# Altium integrated library TI Power Management Power Modules.IntLib: 831 symbols (part 3 of 44)
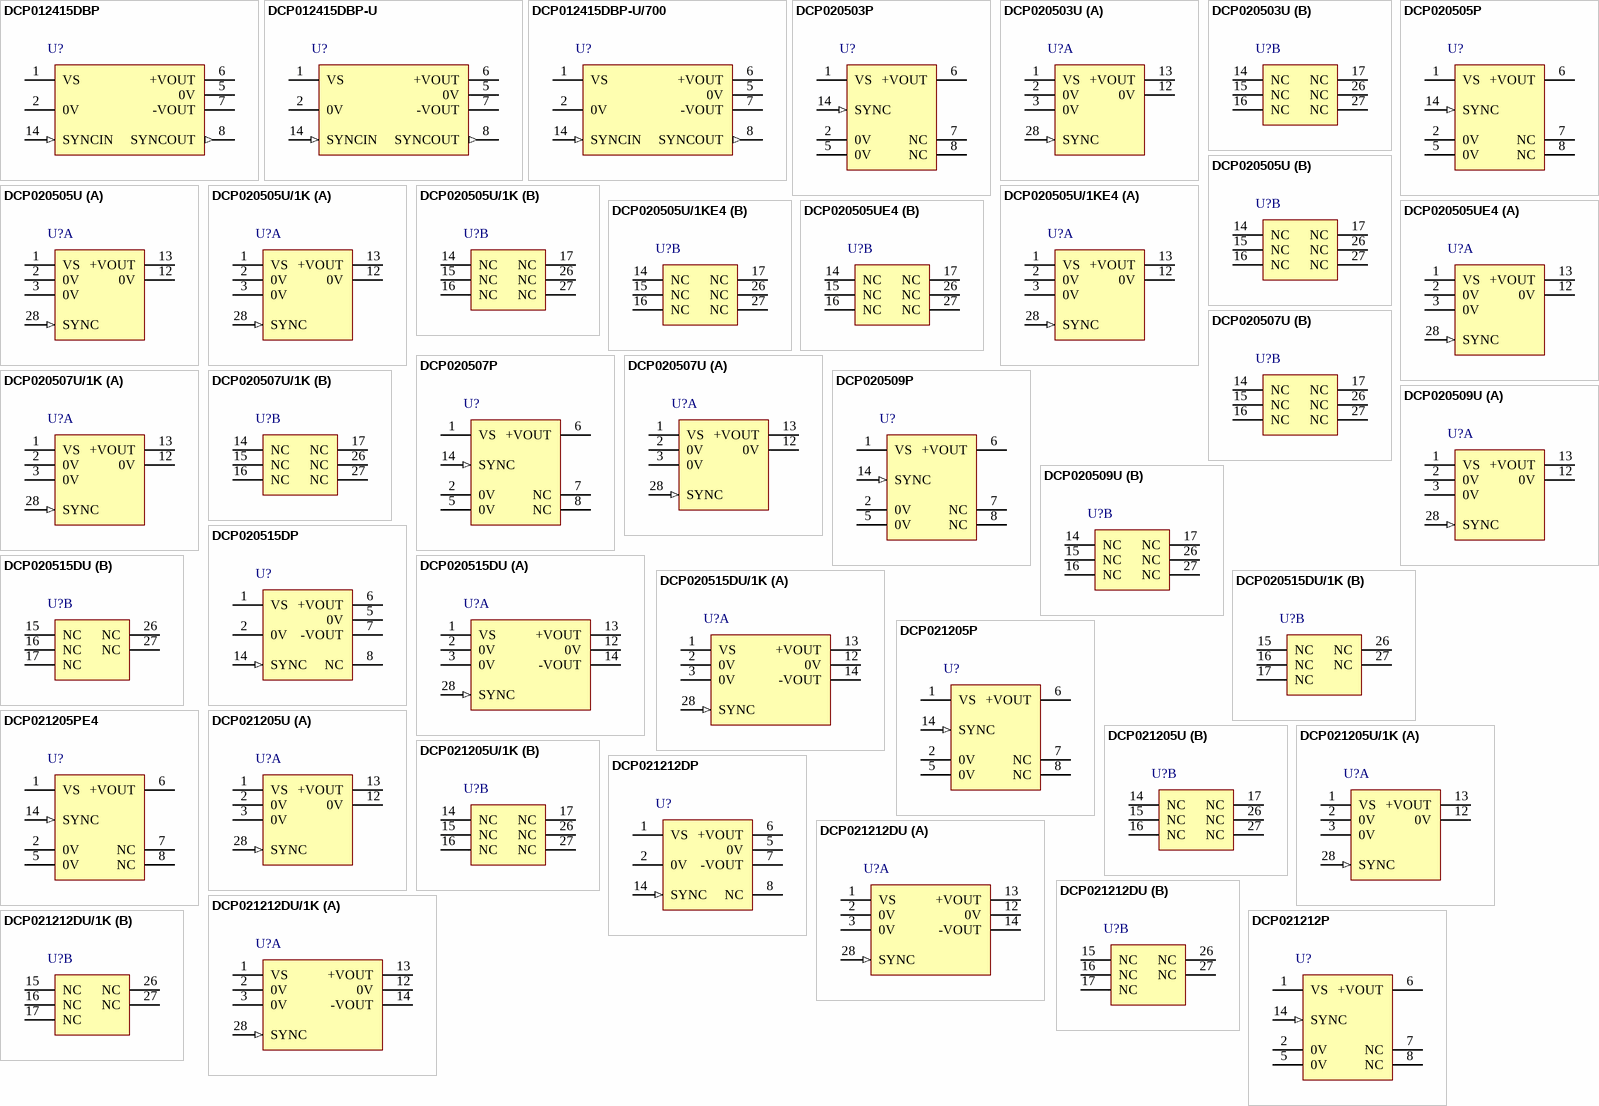
[diagram p25: symbols DCP012415DBP to DCP021212P]

## DCP021205P
designator U?
Miniature, 2 W Isolated Unregulated DC-DC Converter, -40 to 85 degC, 7-pin DIP (NVA7), Pb-Free (RoHS); Manufacturer: Texas Instruments; PartNumber: DCP021205P; Iout(Max)(A): 0.4; Regulated Outputs(#): 1; SubFamily: 1 W & 2 W Miniature; Vin(Max)(V): 13.2; Vin(Min)(V): 10.8; Vout(Max)(V): 5.25; Vout(Min)(V): 4.75; DatasheetVersion: SBVS011K; PackageVersion: 4202489/B; PackageReference: NVA7; PackageDescription: 7-Pin Plastic In-Line, Body 6.61 x 19.18 mm; Supplier 1: Digi-Key; Supplier Part Number 1: DCP021205P-ND; Supplier 2: Newark; Supplier Part Number 2: 74K3729; Supplier 3: Mouser; Supplier Part Number 3: 595-DCP021205P; Eco-Plan: Pb-Free (RoHS); Mounting Technology: Through Hole; Code_JEDEC: MS-001-AA; ComponentLink1Description: Manufacturer URL; ComponentLink1URL: http://www.ti.com/; ComponentLink2Description: Datasheet; ComponentLink2URL: http://www.ti.com/general/docs/lit/getliterature.tsp?genericPartNumber=DCP021205&fileType=pdf; ComponentLink3Description: Package Specification; ComponentLink3URL: http://www.ti.com/lit/ml/mpdi058a/mpdi058a.pdf; ComponentLink4Description: URL Link1; ComponentLink4URL: Samples URL:http://www.ti.com/product/dcp021205#samples
footprint TI-NVA7 (DIP, 7-Leads, Body 19.18x6.605mm, Pitch 2.54mm)
pins: 1 VS (power) "Voltage input", 2 0V (power) "Input side common", 5 0V (power) "Output side common", 6 +VOUT (power) "+Voltage out", 7 NC "Not connected", 8 NC "Not connected", 14 SYNC (in) "Synchronization pin"

## DCP021205PE4
designator U?
Miniature, 2 W Isolated Unregulated DC-DC Converter, -40 to 85 degC, 7-pin DIP (NVA7), Pb-Free (RoHS); Manufacturer: Texas Instruments; PartNumber: DCP021205PE4; Iout(Max)(A): 0.4; Regulated Outputs(#): 1; SubFamily: 1 W & 2 W Miniature; Vin(Max)(V): 13.2; Vin(Min)(V): 10.8; Vout(Max)(V): 5.25; Vout(Min)(V): 4.75; DatasheetVersion: SBVS011K; PackageVersion: 4202489/B; PackageReference: NVA7; PackageDescription: 7-Pin Plastic In-Line, Body 6.61 x 19.18 mm; Supplier 1: Digi-Key; Supplier Part Number 1: DCP021205PE4-ND; Supplier 2: Mouser; Supplier Part Number 2: 595-DCP021205PE4; Eco-Plan: Pb-Free (RoHS); Mounting Technology: Through Hole; Code_JEDEC: MS-001-AA; ComponentLink1Description: Manufacturer URL; ComponentLink1URL: http://www.ti.com/; ComponentLink2Description: Datasheet; ComponentLink2URL: http://www.ti.com/general/docs/lit/getliterature.tsp?genericPartNumber=DCP021205&fileType=pdf; ComponentLink3Description: Package Specification; ComponentLink3URL: http://www.ti.com/lit/ml/mpdi058a/mpdi058a.pdf; ComponentLink4Description: URL Link1; ComponentLink4URL: Samples URL:http://www.ti.com/product/dcp021205#samples
footprint TI-NVA7 (DIP, 7-Leads, Body 19.18x6.605mm, Pitch 2.54mm)
pins: 1 VS (power) "Voltage input", 2 0V (power) "Input side common", 5 0V (power) "Output side common", 6 +VOUT (power) "+Voltage out", 7 NC "Not connected", 8 NC "Not connected", 14 SYNC (in) "Synchronization pin"

## DCP021205U
designator U?
Miniature, 2 W Isolated Unregulated DC-DC Converter, -40 to 85 degC, 12-pin SOP (DVB12), Pb-Free (RoHS); Manufacturer: Texas Instruments; PartNumber: DCP021205U; Iout(Max)(A): 0.4; Regulated Outputs(#): 1; SubFamily: 1 W & 2 W Miniature; Vin(Max)(V): 13.2; Vin(Min)(V): 10.8; Vout(Max)(V): 5.25; Vout(Min)(V): 4.75; DatasheetVersion: SBVS011K; PackageVersion: 4202104/B; PackageReference: DVB12; PackageDescription: 12-Pin Plastic Small Outline, Body 17.9 x 7.5 mm; Supplier 1: Digi-Key; Supplier Part Number 1: DCP021205U-ND; Supplier 2: Newark; Supplier Part Number 2: 74C9348; Supplier 3: Mouser; Supplier Part Number 3: 595-DCP021205U; Eco-Plan: Pb-Free (RoHS); Mounting Technology: Surface Mount; Code_JEDEC: MS-013-AE; ComponentLink1Description: Manufacturer URL; ComponentLink1URL: http://www.ti.com/; ComponentLink2Description: Datasheet; ComponentLink2URL: http://www.ti.com/general/docs/lit/getliterature.tsp?genericPartNumber=DCP021205&fileType=pdf; ComponentLink3Description: Package Specification; ComponentLink3URL: http://www.ti.com/lit/ml/mpds106a/mpds106a.pdf; ComponentLink4Description: URL Link1; ComponentLink4URL: Samples URL:http://www.ti.com/product/dcp021205#samples
footprint TI-DVB12_N (SOP, 12-Leads, Body 17.9x7.5mm, Pitch 1.27mm, IPC Medium Density)
footprint TI-DVB12_L (SOP, 12-Leads, Body 17.9x7.5mm, Pitch 1.27mm, IPC High Density)
footprint TI-DVB12_M (SOP, 12-Leads, Body 17.9x7.5mm, Pitch 1.27mm, IPC Low Density)
part A pins: 1 VS (power) "Voltage input", 2 0V (power) "Input side common", 3 0V (power) "Input side common", 12 0V (power) "Output side common", 13 +VOUT (power) "+Voltage out", 28 SYNC (in) "Synchronization pin"
part B pins: 14 NC "Not connected", 15 NC "Not connected", 16 NC "Not connected", 17 NC "Not connected", 26 NC "Not connected", 27 NC "Not connected"

## DCP021205U/1K
designator U?
Miniature, 2 W Isolated Unregulated DC-DC Converter, -40 to 85 degC, 12-pin SOP (DVB12), Pb-Free (RoHS); Manufacturer: Texas Instruments; PartNumber: DCP021205U/1K; Iout(Max)(A): 0.4; Regulated Outputs(#): 1; SubFamily: 1 W & 2 W Miniature; Vin(Max)(V): 13.2; Vin(Min)(V): 10.8; Vout(Max)(V): 5.25; Vout(Min)(V): 4.75; DatasheetVersion: SBVS011K; PackageVersion: 4202104/B; PackageReference: DVB12; PackageDescription: 12-Pin Plastic Small Outline, Body 17.9 x 7.5 mm; Supplier 1: Digi-Key; Supplier Part Number 1: DCP021205U/1K-ND; Supplier 2: Mouser; Supplier Part Number 2: 595-DCP021205U/1K; Eco-Plan: Pb-Free (RoHS); Mounting Technology: Surface Mount; Code_JEDEC: MS-013-AE; ComponentLink1Description: Manufacturer URL; ComponentLink1URL: http://www.ti.com/; ComponentLink2Description: Datasheet; ComponentLink2URL: http://www.ti.com/general/docs/lit/getliterature.tsp?genericPartNumber=DCP021205&fileType=pdf; ComponentLink3Description: Package Specification; ComponentLink3URL: http://www.ti.com/lit/ml/mpds106a/mpds106a.pdf; ComponentLink4Description: URL Link1; ComponentLink4URL: Samples URL:http://www.ti.com/product/tps55010#samples
footprint TI-DVB12_N (SOP, 12-Leads, Body 17.9x7.5mm, Pitch 1.27mm, IPC Medium Density)
footprint TI-DVB12_L (SOP, 12-Leads, Body 17.9x7.5mm, Pitch 1.27mm, IPC High Density)
footprint TI-DVB12_M (SOP, 12-Leads, Body 17.9x7.5mm, Pitch 1.27mm, IPC Low Density)
part A pins: 1 VS (power) "Voltage input", 2 0V (power) "Input side common", 3 0V (power) "Input side common", 12 0V (power) "Output side common", 13 +VOUT (power) "+Voltage out", 28 SYNC (in) "Synchronization pin"
part B pins: 14 NC "Not connected", 15 NC "Not connected", 16 NC "Not connected", 17 NC "Not connected", 26 NC "Not connected", 27 NC "Not connected"

## DCP021212DP
designator U?
Miniature, 2 W Isolated Unregulated DC-DC Converter, -40 to 85 degC, 7-pin DIP (NVA7), Pb-Free (RoHS); Manufacturer: Texas Instruments; PartNumber: DCP021212DP; Iout(Max)(A): 0.083; Regulated Outputs(#): 2; SubFamily: 1 W & 2 W Miniature; Vin(Max)(V): 13.2; Vin(Min)(V): 10.8; Vout(Max)(V): 12.6; Vout(Min)(V): 11.4; DatasheetVersion: SBVS011K; PackageVersion: 4202489/B; PackageReference: NVA7; PackageDescription: 7-Pin Plastic In-Line, Body 6.61 x 19.18 mm; Supplier 1: Digi-Key; Supplier Part Number 1: DCP021212DP-ND; Supplier 2: Farnell; Supplier Part Number 2: 1214379; Supplier 3: Newark; Supplier Part Number 3: 74K3730; Supplier 4: Mouser; Supplier Part Number 4: 595-DCP021212DP; Eco-Plan: Pb-Free (RoHS); Mounting Technology: Through Hole; Code_JEDEC: MS-001-AA; ComponentLink1Description: Manufacturer URL; ComponentLink1URL: http://www.ti.com/; ComponentLink2Description: Datasheet; ComponentLink2URL: http://www.ti.com/general/docs/lit/getliterature.tsp?genericPartNumber=DCP021212D&fileType=pdf; ComponentLink3Description: Package Specification; ComponentLink3URL: http://www.ti.com/lit/ml/mpdi058a/mpdi058a.pdf; ComponentLink4Description: URL Link1; ComponentLink4URL: Samples URL:http://www.ti.com/product/dcp021212d#samples
footprint TI-NVA7 (DIP, 7-Leads, Body 19.18x6.605mm, Pitch 2.54mm)
pins: 1 VS (power) "Voltage input", 2 0V (power) "Input side common", 5 0V (power) "Output side common", 6 +VOUT (power) "+Voltage out", 7 -VOUT (power) "-Voltage out", 8 NC "Not connected", 14 SYNC (in) "Synchronization pin"

## DCP021212DU
designator U?
Miniature, 2 W Isolated Unregulated DC-DC Converter, -40 to 85 degC, 12-pin SOP (DVB12), Pb-Free (RoHS); Manufacturer: Texas Instruments; PartNumber: DCP021212DU; Iout(Max)(A): 0.083; Regulated Outputs(#): 2; SubFamily: 1 W & 2 W Miniature; Vin(Max)(V): 13.2; Vin(Min)(V): 10.8; Vout(Max)(V): 12.6; Vout(Min)(V): 11.4; DatasheetVersion: SBVS011K; PackageVersion: 4202104/B; PackageReference: DVB12; PackageDescription: 12-Pin Plastic Small Outline, Body 17.9 x 7.5 mm; Supplier 1: Digi-Key; Supplier Part Number 1: 296-9446-5-ND; Supplier 2: Newark; Supplier Part Number 2: 74C9351; Supplier 3: Mouser; Supplier Part Number 3: 595-DCP021212DU; Eco-Plan: Pb-Free (RoHS); Mounting Technology: Surface Mount; Code_JEDEC: MS-013-AE; ComponentLink1Description: Manufacturer URL; ComponentLink1URL: http://www.ti.com/; ComponentLink2Description: Datasheet; ComponentLink2URL: http://www.ti.com/general/docs/lit/getliterature.tsp?genericPartNumber=DCP021212D&fileType=pdf; ComponentLink3Description: Package Specification; ComponentLink3URL: http://www.ti.com/lit/ml/mpds106a/mpds106a.pdf; ComponentLink4Description: URL Link1; ComponentLink4URL: Samples URL:http://www.ti.com/product/dcp021212d#samples
footprint TI-DVB12_N (SOP, 12-Leads, Body 17.9x7.5mm, Pitch 1.27mm, IPC Medium Density)
footprint TI-DVB12_L (SOP, 12-Leads, Body 17.9x7.5mm, Pitch 1.27mm, IPC High Density)
footprint TI-DVB12_M (SOP, 12-Leads, Body 17.9x7.5mm, Pitch 1.27mm, IPC Low Density)
part A pins: 1 VS (power) "Voltage input", 2 0V (power) "Input side common", 3 0V (power) "Input side common", 12 0V (power) "Output side common", 13 +VOUT (power) "+Voltage out", 14 -VOUT (power) "-Voltage out", 28 SYNC (in) "Synchronization pin"
part B pins: 15 NC "Not connected", 16 NC "Not connected", 17 NC "Not connected", 26 NC "Not connected", 27 NC "Not connected"

## DCP021212DU/1K
designator U?
Miniature, 2 W Isolated Unregulated DC-DC Converter, -40 to 85 degC, 12-pin SOP (DVB12), Pb-Free (RoHS); Manufacturer: Texas Instruments; PartNumber: DCP021212DU/1K; Iout(Max)(A): 0.083; Regulated Outputs(#): 2; SubFamily: 1 W & 2 W Miniature; Vin(Max)(V): 13.2; Vin(Min)(V): 10.8; Vout(Max)(V): 12.6; Vout(Min)(V): 11.4; DatasheetVersion: SBVS011K; PackageVersion: 4202104/B; PackageReference: DVB12; PackageDescription: 12-Pin Plastic Small Outline, Body 17.9 x 7.5 mm; Supplier 1: Digi-Key; Supplier Part Number 1: DCP021212DU/1K-ND; Supplier 2: Newark; Supplier Part Number 2: 74C9352; Supplier 3: Mouser; Supplier Part Number 3: 595-DCP021212DU/1K; Eco-Plan: Pb-Free (RoHS); Mounting Technology: Surface Mount; Code_JEDEC: MS-013-AE; ComponentLink1Description: Manufacturer URL; ComponentLink1URL: http://www.ti.com/; ComponentLink2Description: Datasheet; ComponentLink2URL: http://www.ti.com/general/docs/lit/getliterature.tsp?genericPartNumber=DCP021212D&fileType=pdf; ComponentLink3Description: Package Specification; ComponentLink3URL: http://www.ti.com/lit/ml/mpds106a/mpds106a.pdf; ComponentLink4Description: URL Link1; ComponentLink4URL: Samples URL:http://www.ti.com/product/tps55010#samples
footprint TI-DVB12_N (SOP, 12-Leads, Body 17.9x7.5mm, Pitch 1.27mm, IPC Medium Density)
footprint TI-DVB12_L (SOP, 12-Leads, Body 17.9x7.5mm, Pitch 1.27mm, IPC High Density)
footprint TI-DVB12_M (SOP, 12-Leads, Body 17.9x7.5mm, Pitch 1.27mm, IPC Low Density)
part A pins: 1 VS (power) "Voltage input", 2 0V (power) "Input side common", 3 0V (power) "Input side common", 12 0V (power) "Output side common", 13 +VOUT (power) "+Voltage out", 14 -VOUT (power) "-Voltage out", 28 SYNC (in) "Synchronization pin"
part B pins: 15 NC "Not connected", 16 NC "Not connected", 17 NC "Not connected", 26 NC "Not connected", 27 NC "Not connected"

## DCP021212P
designator U?
Miniature, 2 W Isolated Unregulated DC-DC Converter, -40 to 85 degC, 7-pin DIP (NVA7), Pb-Free (RoHS); Manufacturer: Texas Instruments; PartNumber: DCP021212P; Iout(Max)(A): 0.167; Regulated Outputs(#): 1; SubFamily: 1 W & 2 W Miniature; Vin(Max)(V): 13.2; Vin(Min)(V): 10.8; Vout(Max)(V): 12.6; Vout(Min)(V): 11.4; DatasheetVersion: SBVS011K; PackageVersion: 4202489/B; PackageReference: NVA7; PackageDescription: 7-Pin Plastic In-Line, Body 6.61 x 19.18 mm; Supplier 1: Digi-Key; Supplier Part Number 1: DCP021212P-ND; Supplier 2: Farnell; Supplier Part Number 2: 1214377; Supplier 3: Newark; Supplier Part Number 3: 74K3731; Supplier 4: Mouser; Supplier Part Number 4: 595-DCP021212P; Eco-Plan: Pb-Free (RoHS); Mounting Technology: Through Hole; Code_JEDEC: MS-001-AA; ComponentLink1Description: Manufacturer URL; ComponentLink1URL: http://www.ti.com/; ComponentLink2Description: Datasheet; ComponentLink2URL: http://www.ti.com/general/docs/lit/getliterature.tsp?genericPartNumber=DCP021212&fileType=pdf; ComponentLink3Description: Package Specification; ComponentLink3URL: http://www.ti.com/lit/ml/mpdi058a/mpdi058a.pdf; ComponentLink4Description: URL Link1; ComponentLink4URL: Samples URL:http://www.ti.com/product/dcp021212#samples
footprint TI-NVA7 (DIP, 7-Leads, Body 19.18x6.605mm, Pitch 2.54mm)
pins: 1 VS (power) "Voltage input", 2 0V (power) "Input side common", 5 0V (power) "Output side common", 6 +VOUT (power) "+Voltage out", 7 NC "Not connected", 8 NC "Not connected", 14 SYNC (in) "Synchronization pin"

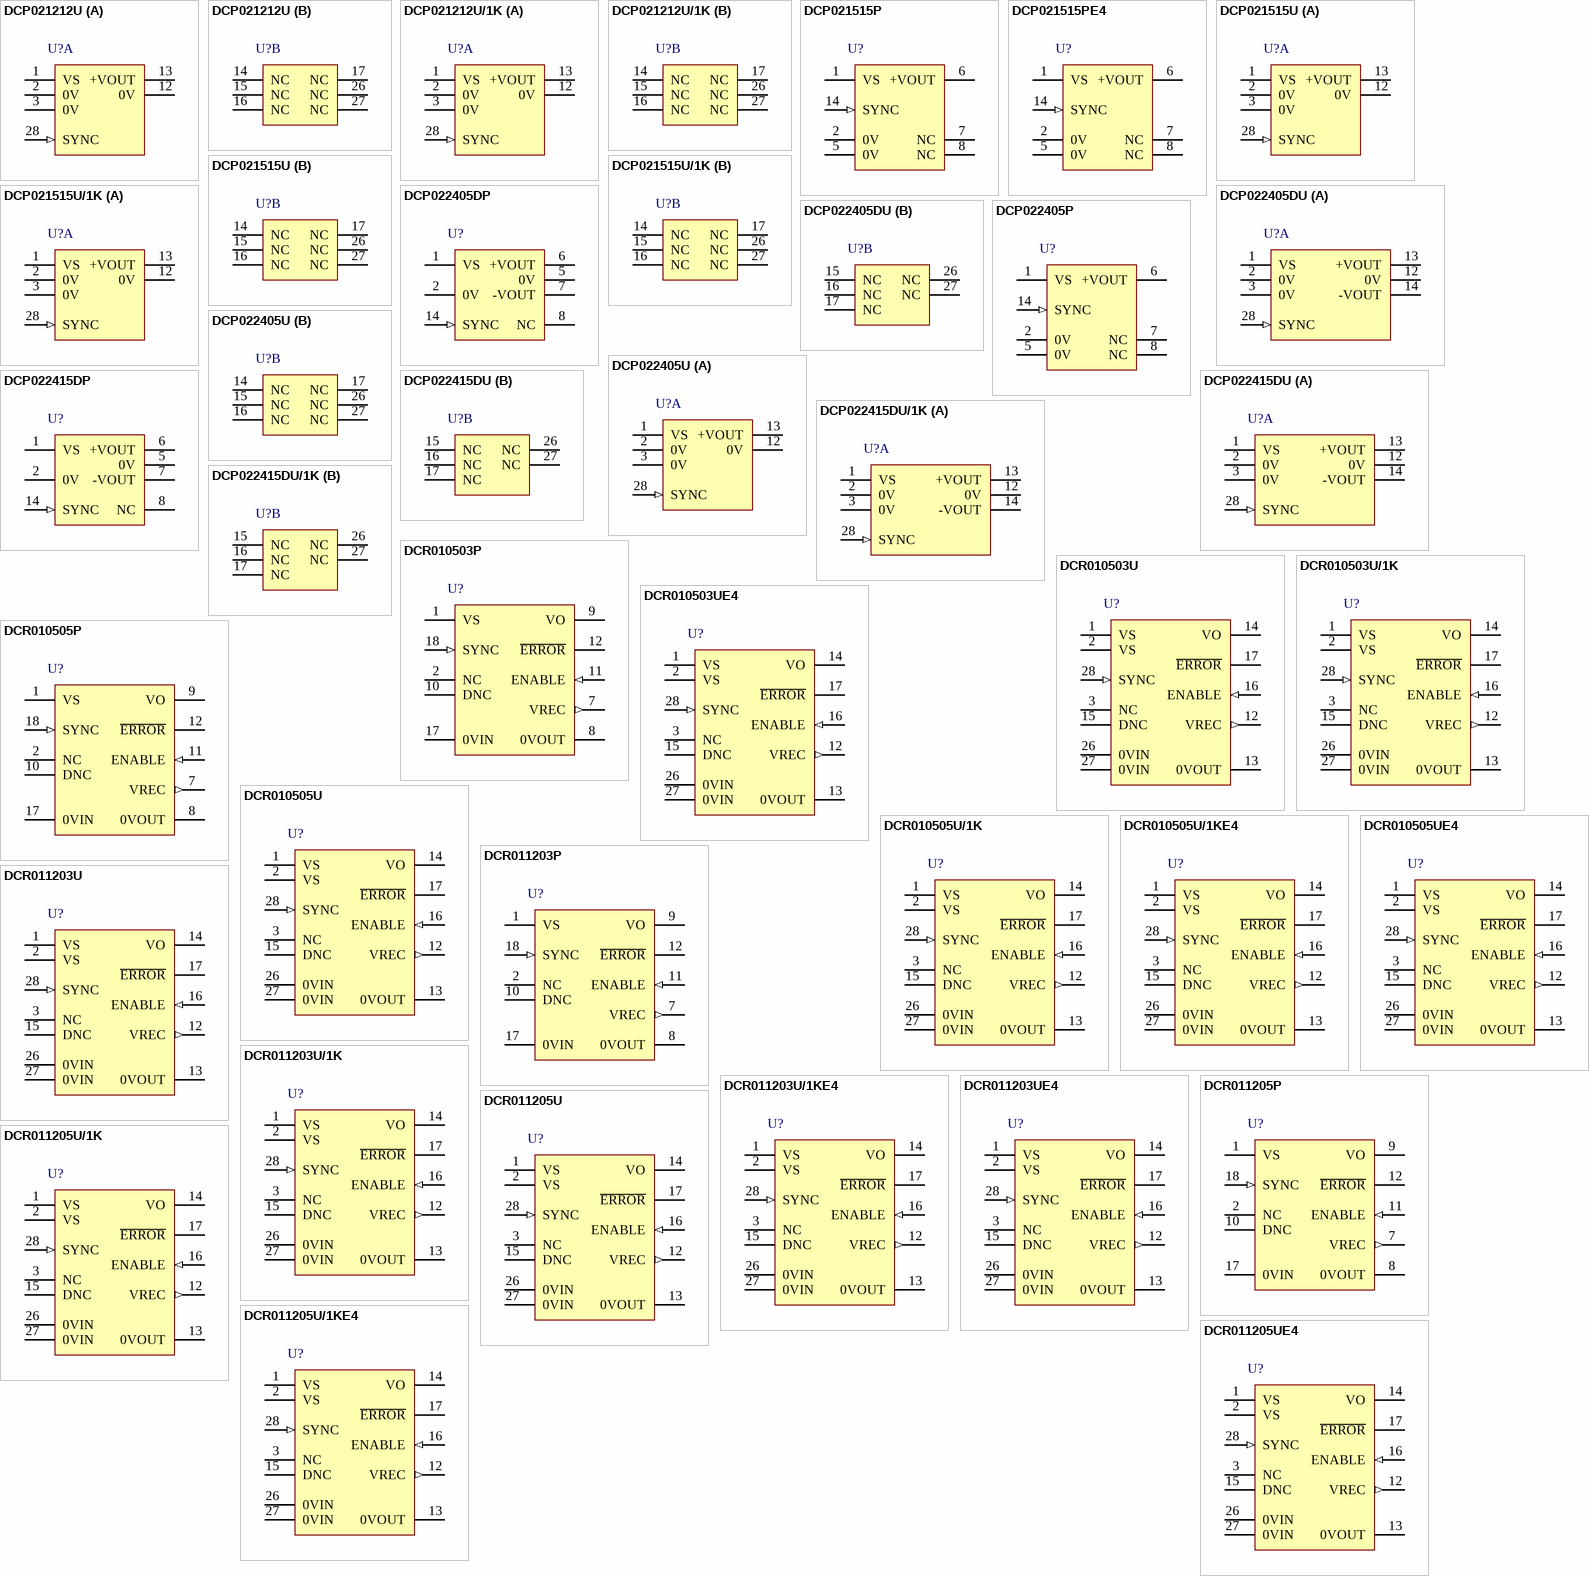
[diagram p2: symbols DCP021212U to DCR011205UE4]

## DCP021212U
designator U?
Miniature, 2 W Isolated Unregulated DC-DC Converter, -40 to 85 degC, 12-pin SOP (DVB12), Pb-Free (RoHS); Manufacturer: Texas Instruments; PartNumber: DCP021212U; Iout(Max)(A): 0.167; Regulated Outputs(#): 1; SubFamily: 1 W & 2 W Miniature; Vin(Max)(V): 13.2; Vin(Min)(V): 10.8; Vout(Max)(V): 12.6; Vout(Min)(V): 11.4; DatasheetVersion: SBVS011K; PackageVersion: 4202104/B; PackageReference: DVB12; PackageDescription: 12-Pin Plastic Small Outline, Body 17.9 x 7.5 mm; Supplier 1: Digi-Key; Supplier Part Number 1: 296-9447-5-ND; Supplier 2: Newark; Supplier Part Number 2: 74C9353; Supplier 3: Mouser; Supplier Part Number 3: 595-DCP021212U; Eco-Plan: Pb-Free (RoHS); Mounting Technology: Surface Mount; Code_JEDEC: MS-013-AE; ComponentLink1Description: Manufacturer URL; ComponentLink1URL: http://www.ti.com/; ComponentLink2Description: Datasheet; ComponentLink2URL: http://www.ti.com/general/docs/lit/getliterature.tsp?genericPartNumber=DCP021212&fileType=pdf; ComponentLink3Description: Package Specification; ComponentLink3URL: http://www.ti.com/lit/ml/mpds106a/mpds106a.pdf; ComponentLink4Description: URL Link1; ComponentLink4URL: Samples URL:http://www.ti.com/product/dcp021212#samples
footprint TI-DVB12_N (SOP, 12-Leads, Body 17.9x7.5mm, Pitch 1.27mm, IPC Medium Density)
footprint TI-DVB12_L (SOP, 12-Leads, Body 17.9x7.5mm, Pitch 1.27mm, IPC High Density)
footprint TI-DVB12_M (SOP, 12-Leads, Body 17.9x7.5mm, Pitch 1.27mm, IPC Low Density)
part A pins: 1 VS (power) "Voltage input", 2 0V (power) "Input side common", 3 0V (power) "Input side common", 12 0V (power) "Output side common", 13 +VOUT (power) "+Voltage out", 28 SYNC (in) "Synchronization pin"
part B pins: 14 NC "Not connected", 15 NC "Not connected", 16 NC "Not connected", 17 NC "Not connected", 26 NC "Not connected", 27 NC "Not connected"

## DCP021212U/1K
designator U?
Miniature, 2 W Isolated Unregulated DC-DC Converter, -40 to 85 degC, 12-pin SOP (DVB12), Pb-Free (RoHS); Manufacturer: Texas Instruments; PartNumber: DCP021212U/1K; Iout(Max)(A): 0.167; Regulated Outputs(#): 1; SubFamily: 1 W & 2 W Miniature; Vin(Max)(V): 13.2; Vin(Min)(V): 10.8; Vout(Max)(V): 12.6; Vout(Min)(V): 11.4; DatasheetVersion: SBVS011K; PackageVersion: 4202104/B; PackageReference: DVB12; PackageDescription: 12-Pin Plastic Small Outline, Body 17.9 x 7.5 mm; Supplier 1: Digi-Key; Supplier Part Number 1: DCP021212U/1K-ND; Supplier 2: Newark; Supplier Part Number 2: 74C9354; Supplier 3: Mouser; Supplier Part Number 3: 595-DCP021212U/1K; Eco-Plan: Pb-Free (RoHS); Mounting Technology: Surface Mount; Code_JEDEC: MS-013-AE; ComponentLink1Description: Manufacturer URL; ComponentLink1URL: http://www.ti.com/; ComponentLink2Description: Datasheet; ComponentLink2URL: http://www.ti.com/general/docs/lit/getliterature.tsp?genericPartNumber=DCP021212&fileType=pdf; ComponentLink3Description: Package Specification; ComponentLink3URL: http://www.ti.com/lit/ml/mpds106a/mpds106a.pdf; ComponentLink4Description: URL Link1; ComponentLink4URL: Samples URL:http://www.ti.com/product/tps55010#samples
footprint TI-DVB12_N (SOP, 12-Leads, Body 17.9x7.5mm, Pitch 1.27mm, IPC Medium Density)
footprint TI-DVB12_L (SOP, 12-Leads, Body 17.9x7.5mm, Pitch 1.27mm, IPC High Density)
footprint TI-DVB12_M (SOP, 12-Leads, Body 17.9x7.5mm, Pitch 1.27mm, IPC Low Density)
part A pins: 1 VS (power) "Voltage input", 2 0V (power) "Input side common", 3 0V (power) "Input side common", 12 0V (power) "Output side common", 13 +VOUT (power) "+Voltage out", 28 SYNC (in) "Synchronization pin"
part B pins: 14 NC "Not connected", 15 NC "Not connected", 16 NC "Not connected", 17 NC "Not connected", 26 NC "Not connected", 27 NC "Not connected"

## DCP021515P
designator U?
Miniature, 2 W Isolated Unregulated DC-DC Converter, -40 to 85 degC, 7-pin DIP (NVA7), Pb-Free (RoHS); Manufacturer: Texas Instruments; PartNumber: DCP021515P; Iout(Max)(A): 0.133; Regulated Outputs(#): 1; SubFamily: 1 W & 2 W Miniature; Vin(Max)(V): 16.5; Vin(Min)(V): 13.5; Vout(Max)(V): 15.75; Vout(Min)(V): 14.25; DatasheetVersion: SBVS011K; PackageVersion: 4202489/B; PackageReference: NVA7; PackageDescription: 7-Pin Plastic In-Line, Body 6.61 x 19.18 mm; Supplier 1: Digi-Key; Supplier Part Number 1: DCP021515P-ND; Supplier 2: Newark; Supplier Part Number 2: 74K3732; Supplier 3: Mouser; Supplier Part Number 3: 595-DCP021515P; Eco-Plan: Pb-Free (RoHS); Mounting Technology: Through Hole; Code_JEDEC: MS-001-AA; ComponentLink1Description: Manufacturer URL; ComponentLink1URL: http://www.ti.com/; ComponentLink2Description: Datasheet; ComponentLink2URL: http://www.ti.com/general/docs/lit/getliterature.tsp?genericPartNumber=DCP021515&fileType=pdf; ComponentLink3Description: Package Specification; ComponentLink3URL: http://www.ti.com/lit/ml/mpdi058a/mpdi058a.pdf; ComponentLink4Description: URL Link1; ComponentLink4URL: Samples URL:http://www.ti.com/product/dcp021515#samples
footprint TI-NVA7 (DIP, 7-Leads, Body 19.18x6.605mm, Pitch 2.54mm)
pins: 1 VS (power) "Voltage input", 2 0V (power) "Input side common", 5 0V (power) "Output side common", 6 +VOUT (power) "+Voltage out", 7 NC "Not connected", 8 NC "Not connected", 14 SYNC (in) "Synchronization pin"

## DCP021515PE4
designator U?
Miniature, 2 W Isolated Unregulated DC-DC Converter, -40 to 85 degC, 7-pin DIP (NVA7), Pb-Free (RoHS); Manufacturer: Texas Instruments; PartNumber: DCP021515PE4; Iout(Max)(A): 0.133; Regulated Outputs(#): 1; SubFamily: 1 W & 2 W Miniature; Vin(Max)(V): 16.5; Vin(Min)(V): 13.5; Vout(Max)(V): 15.75; Vout(Min)(V): 14.25; DatasheetVersion: SBVS011K; PackageVersion: 4202489/B; PackageReference: NVA7; PackageDescription: 7-Pin Plastic In-Line, Body 6.61 x 19.18 mm; Supplier 1: Digi-Key; Supplier Part Number 1: DCP021515PE4-ND; Supplier 2: Newark; Supplier Part Number 2: 73K7732; Supplier 3: Mouser; Supplier Part Number 3: 595-DCP021515PE4; Eco-Plan: Pb-Free (RoHS); Mounting Technology: Through Hole; Code_JEDEC: MS-001-AA; ComponentLink1Description: Manufacturer URL; ComponentLink1URL: http://www.ti.com/; ComponentLink2Description: Datasheet; ComponentLink2URL: http://www.ti.com/general/docs/lit/getliterature.tsp?genericPartNumber=DCP021515&fileType=pdf; ComponentLink3Description: Package Specification; ComponentLink3URL: http://www.ti.com/lit/ml/mpdi058a/mpdi058a.pdf; ComponentLink4Description: URL Link1; ComponentLink4URL: Samples URL:http://www.ti.com/product/dcp021515#samples
footprint TI-NVA7 (DIP, 7-Leads, Body 19.18x6.605mm, Pitch 2.54mm)
pins: 1 VS (power) "Voltage input", 2 0V (power) "Input side common", 5 0V (power) "Output side common", 6 +VOUT (power) "+Voltage out", 7 NC "Not connected", 8 NC "Not connected", 14 SYNC (in) "Synchronization pin"

## DCP021515U
designator U?
Miniature, 2 W Isolated Unregulated DC-DC Converter, -40 to 85 degC, 12-pin SOP (DVB12), Pb-Free (RoHS); Manufacturer: Texas Instruments; PartNumber: DCP021515U; Iout(Max)(A): 0.133; Regulated Outputs(#): 1; SubFamily: 1 W & 2 W Miniature; Vin(Max)(V): 16.5; Vin(Min)(V): 13.5; Vout(Max)(V): 15.75; Vout(Min)(V): 14.25; DatasheetVersion: SBVS011K; PackageVersion: 4202104/B; PackageReference: DVB12; PackageDescription: 12-Pin Plastic Small Outline, Body 17.9 x 7.5 mm; Supplier 1: Digi-Key; Supplier Part Number 1: 296-9448-5-ND; Supplier 2: Farnell; Supplier Part Number 2: 1510237; Supplier 3: Newark; Supplier Part Number 3: 74C9355; Supplier 4: Mouser; Supplier Part Number 4: 595-DCP021515U; Eco-Plan: Pb-Free (RoHS); Mounting Technology: Surface Mount; Code_JEDEC: MS-013-AE; ComponentLink1Description: Manufacturer URL; ComponentLink1URL: http://www.ti.com/; ComponentLink2Description: Datasheet; ComponentLink2URL: http://www.ti.com/general/docs/lit/getliterature.tsp?genericPartNumber=DCP021515&fileType=pdf; ComponentLink3Description: Package Specification; ComponentLink3URL: http://www.ti.com/lit/ml/mpds106a/mpds106a.pdf; ComponentLink4Description: URL Link1; ComponentLink4URL: Samples URL:http://www.ti.com/product/dcp021515#samples
footprint TI-DVB12_N (SOP, 12-Leads, Body 17.9x7.5mm, Pitch 1.27mm, IPC Medium Density)
footprint TI-DVB12_L (SOP, 12-Leads, Body 17.9x7.5mm, Pitch 1.27mm, IPC High Density)
footprint TI-DVB12_M (SOP, 12-Leads, Body 17.9x7.5mm, Pitch 1.27mm, IPC Low Density)
part A pins: 1 VS (power) "Voltage input", 2 0V (power) "Input side common", 3 0V (power) "Input side common", 12 0V (power) "Output side common", 13 +VOUT (power) "+Voltage out", 28 SYNC (in) "Synchronization pin"
part B pins: 14 NC "Not connected", 15 NC "Not connected", 16 NC "Not connected", 17 NC "Not connected", 26 NC "Not connected", 27 NC "Not connected"

## DCP021515U/1K
designator U?
Miniature, 2 W Isolated Unregulated DC-DC Converter, -40 to 85 degC, 12-pin SOP (DVB12), Pb-Free (RoHS); Manufacturer: Texas Instruments; PartNumber: DCP021515U/1K; Iout(Max)(A): 0.133; Regulated Outputs(#): 1; SubFamily: 1 W & 2 W Miniature; Vin(Max)(V): 16.5; Vin(Min)(V): 13.5; Vout(Max)(V): 15.75; Vout(Min)(V): 14.25; DatasheetVersion: SBVS011K; PackageVersion: 4202104/B; PackageReference: DVB12; PackageDescription: 12-Pin Plastic Small Outline, Body 17.9 x 7.5 mm; Supplier 1: Digi-Key; Supplier Part Number 1: DCP021515U/1K-ND; Supplier 2: Newark; Supplier Part Number 2: 74C9356; Supplier 3: Mouser; Supplier Part Number 3: 595-DCP021515U/1K; Eco-Plan: Pb-Free (RoHS); Mounting Technology: Surface Mount; Code_JEDEC: MS-013-AE; ComponentLink1Description: Manufacturer URL; ComponentLink1URL: http://www.ti.com/; ComponentLink2Description: Datasheet; ComponentLink2URL: http://www.ti.com/general/docs/lit/getliterature.tsp?genericPartNumber=DCP021515&fileType=pdf; ComponentLink3Description: Package Specification; ComponentLink3URL: http://www.ti.com/lit/ml/mpds106a/mpds106a.pdf; ComponentLink4Description: URL Link1; ComponentLink4URL: Samples URL:http://www.ti.com/product/tps55010#samples
footprint TI-DVB12_N (SOP, 12-Leads, Body 17.9x7.5mm, Pitch 1.27mm, IPC Medium Density)
footprint TI-DVB12_L (SOP, 12-Leads, Body 17.9x7.5mm, Pitch 1.27mm, IPC High Density)
footprint TI-DVB12_M (SOP, 12-Leads, Body 17.9x7.5mm, Pitch 1.27mm, IPC Low Density)
part A pins: 1 VS (power) "Voltage input", 2 0V (power) "Input side common", 3 0V (power) "Input side common", 12 0V (power) "Output side common", 13 +VOUT (power) "+Voltage out", 28 SYNC (in) "Synchronization pin"
part B pins: 14 NC "Not connected", 15 NC "Not connected", 16 NC "Not connected", 17 NC "Not connected", 26 NC "Not connected", 27 NC "Not connected"

## DCP022405DP
designator U?
Miniature, 2 W Isolated Unregulated DC-DC Converter, -40 to 85 degC, 7-pin DIP (NVA7), Pb-Free (RoHS); Manufacturer: Texas Instruments; PartNumber: DCP022405DP; Iout(Max)(A): 0.2; Regulated Outputs(#): 2; SubFamily: 1 W & 2 W Miniature; Vin(Max)(V): 26.4; Vin(Min)(V): 21.6; Vout(Max)(V): 5.25; Vout(Min)(V): 4.75; DatasheetVersion: SBVS011K; PackageVersion: 4202489/B; PackageReference: NVA7; PackageDescription: 7-Pin Plastic In-Line, Body 6.61 x 19.18 mm; Supplier 1: Digi-Key; Supplier Part Number 1: DCP022405DP-ND; Supplier 2: Newark; Supplier Part Number 2: 74C9357; Supplier 3: Mouser; Supplier Part Number 3: 595-DCP022405DP; Eco-Plan: Pb-Free (RoHS); Mounting Technology: Through Hole; Code_JEDEC: MS-001-AA; ComponentLink1Description: Manufacturer URL; ComponentLink1URL: http://www.ti.com/; ComponentLink2Description: Datasheet; ComponentLink2URL: http://www.ti.com/general/docs/lit/getliterature.tsp?genericPartNumber=DCP022405D&fileType=pdf; ComponentLink3Description: Package Specification; ComponentLink3URL: http://www.ti.com/lit/ml/mpdi058a/mpdi058a.pdf; ComponentLink4Description: URL Link1; ComponentLink4URL: Samples URL:http://www.ti.com/product/dcp022405d#samples
footprint TI-NVA7 (DIP, 7-Leads, Body 19.18x6.605mm, Pitch 2.54mm)
pins: 1 VS (power) "Voltage input", 2 0V (power) "Input side common", 5 0V (power) "Output side common", 6 +VOUT (power) "+Voltage out", 7 -VOUT (power) "-Voltage out", 8 NC "Not connected", 14 SYNC (in) "Synchronization pin"

## DCP022405DU
designator U?
Miniature, 2 W Isolated Unregulated DC-DC Converter, -40 to 85 degC, 12-pin SOP (DVB12), Pb-Free (RoHS); Manufacturer: Texas Instruments; PartNumber: DCP022405DU; Iout(Max)(A): 0.2; Regulated Outputs(#): 2; SubFamily: 1 W & 2 W Miniature; Vin(Max)(V): 26.4; Vin(Min)(V): 21.6; Vout(Max)(V): 5.25; Vout(Min)(V): 4.75; DatasheetVersion: SBVS011K; PackageVersion: 4202104/B; PackageReference: DVB12; PackageDescription: 12-Pin Plastic Small Outline, Body 17.9 x 7.5 mm; Supplier 1: Digi-Key; Supplier Part Number 1: 296-33268-5-ND; Supplier 2: Newark; Supplier Part Number 2: 74C9358; Supplier 3: Mouser; Supplier Part Number 3: 595-DCP022405DU; Eco-Plan: Pb-Free (RoHS); Mounting Technology: Surface Mount; Code_JEDEC: MS-013-AE; ComponentLink1Description: Manufacturer URL; ComponentLink1URL: http://www.ti.com/; ComponentLink2Description: Datasheet; ComponentLink2URL: http://www.ti.com/general/docs/lit/getliterature.tsp?genericPartNumber=DCP022405D&fileType=pdf; ComponentLink3Description: Package Specification; ComponentLink3URL: http://www.ti.com/lit/ml/mpds106a/mpds106a.pdf; ComponentLink4Description: URL Link1; ComponentLink4URL: Samples URL:http://www.ti.com/product/tps55010#samples
footprint TI-DVB12_N (SOP, 12-Leads, Body 17.9x7.5mm, Pitch 1.27mm, IPC Medium Density)
footprint TI-DVB12_L (SOP, 12-Leads, Body 17.9x7.5mm, Pitch 1.27mm, IPC High Density)
footprint TI-DVB12_M (SOP, 12-Leads, Body 17.9x7.5mm, Pitch 1.27mm, IPC Low Density)
part A pins: 1 VS (power) "Voltage input", 2 0V (power) "Input side common", 3 0V (power) "Input side common", 12 0V (power) "Output side common", 13 +VOUT (power) "+Voltage out", 14 -VOUT (power) "-Voltage out", 28 SYNC (in) "Synchronization pin"
part B pins: 15 NC "Not connected", 16 NC "Not connected", 17 NC "Not connected", 26 NC "Not connected", 27 NC "Not connected"

## DCP022405P
designator U?
Miniature, 2 W Isolated Unregulated DC-DC Converter, -40 to 85 degC, 7-pin DIP (NVA7), Pb-Free (RoHS); Manufacturer: Texas Instruments; PartNumber: DCP022405P; Iout(Max)(A): 0.4; Regulated Outputs(#): 1; SubFamily: 1 W & 2 W Miniature; Vin(Max)(V): 26.4; Vin(Min)(V): 21.6; Vout(Max)(V): 5.35; Vout(Min)(V): 4.85; DatasheetVersion: SBVS011K; PackageVersion: 4202489/B; PackageReference: NVA7; PackageDescription: 7-Pin Plastic In-Line, Body 6.61 x 19.18 mm; Supplier 1: Digi-Key; Supplier Part Number 1: DCP022405P-ND; Supplier 2: Farnell; Supplier Part Number 2: 1754817; Supplier 3: Newark; Supplier Part Number 3: 78K5906; Supplier 4: Mouser; Supplier Part Number 4: 595-DCP022405P; Eco-Plan: Pb-Free (RoHS); Mounting Technology: Through Hole; Code_JEDEC: MS-001-AA; ComponentLink1Description: Manufacturer URL; ComponentLink1URL: http://www.ti.com/; ComponentLink2Description: Datasheet; ComponentLink2URL: http://www.ti.com/general/docs/lit/getliterature.tsp?genericPartNumber=DCP022405&fileType=pdf; ComponentLink3Description: Package Specification; ComponentLink3URL: http://www.ti.com/lit/ml/mpdi058a/mpdi058a.pdf; ComponentLink4Description: URL Link1; ComponentLink4URL: Samples URL:http://www.ti.com/product/dcp022405#samples
footprint TI-NVA7 (DIP, 7-Leads, Body 19.18x6.605mm, Pitch 2.54mm)
pins: 1 VS (power) "Voltage input", 2 0V (power) "Input side common", 5 0V (power) "Output side common", 6 +VOUT (power) "+Voltage out", 7 NC "Not connected", 8 NC "Not connected", 14 SYNC (in) "Synchronization pin"

## DCP022405U
designator U?
Miniature, 2 W Isolated Unregulated DC-DC Converter, -40 to 85 degC, 12-pin SOP (DVB12), Pb-Free (RoHS); Manufacturer: Texas Instruments; PartNumber: DCP022405U; Iout(Max)(A): 0.4; Regulated Outputs(#): 1; SubFamily: 1 W & 2 W Miniature; Vin(Max)(V): 26.4; Vin(Min)(V): 21.6; Vout(Max)(V): 5.25; Vout(Min)(V): 4.75; DatasheetVersion: SBVS011K; PackageVersion: 4202104/B; PackageReference: DVB12; PackageDescription: 12-Pin Plastic Small Outline, Body 17.9 x 7.5 mm; Supplier 1: Digi-Key; Supplier Part Number 1: 296-12367-5-ND; Supplier 2: Newark; Supplier Part Number 2: 74C9360; Supplier 3: Mouser; Supplier Part Number 3: 595-DCP022405U; Eco-Plan: Pb-Free (RoHS); Mounting Technology: Surface Mount; Code_JEDEC: MS-013-AE; ComponentLink1Description: Manufacturer URL; ComponentLink1URL: http://www.ti.com/; ComponentLink2Description: Datasheet; ComponentLink2URL: http://www.ti.com/general/docs/lit/getliterature.tsp?genericPartNumber=DCP022405&fileType=pdf; ComponentLink3Description: Package Specification; ComponentLink3URL: http://www.ti.com/lit/ml/mpds106a/mpds106a.pdf; ComponentLink4Description: URL Link1; ComponentLink4URL: Samples URL:http://www.ti.com/product/tps55010#samples
footprint TI-DVB12_N (SOP, 12-Leads, Body 17.9x7.5mm, Pitch 1.27mm, IPC Medium Density)
footprint TI-DVB12_L (SOP, 12-Leads, Body 17.9x7.5mm, Pitch 1.27mm, IPC High Density)
footprint TI-DVB12_M (SOP, 12-Leads, Body 17.9x7.5mm, Pitch 1.27mm, IPC Low Density)
part A pins: 1 VS (power) "Voltage input", 2 0V (power) "Input side common", 3 0V (power) "Input side common", 12 0V (power) "Output side common", 13 +VOUT (power) "+Voltage out", 28 SYNC (in) "Synchronization pin"
part B pins: 14 NC "Not connected", 15 NC "Not connected", 16 NC "Not connected", 17 NC "Not connected", 26 NC "Not connected", 27 NC "Not connected"

## DCP022415DP
designator U?
Miniature, 2 W Isolated Unregulated DC-DC Converter, -40 to 85 degC, 7-pin DIP (NVA7), Pb-Free (RoHS); Manufacturer: Texas Instruments; PartNumber: DCP022415DP; Iout(Max)(A): 0.066; Regulated Outputs(#): 2; SubFamily: 1 W & 2 W Miniature; Vin(Max)(V): 26.4; Vin(Min)(V): 21.6; Vout(Max)(V): 15.75; Vout(Min)(V): 14.25; DatasheetVersion: SBVS011K; PackageVersion: 4202489/B; PackageReference: NVA7; PackageDescription: 7-Pin Plastic In-Line, Body 6.61 x 19.18 mm; Supplier 1: Digi-Key; Supplier Part Number 1: DCP022415DP-ND; Supplier 2: Newark; Supplier Part Number 2: 74K3733; Supplier 3: Mouser; Supplier Part Number 3: 595-DCP022415DP; Eco-Plan: Pb-Free (RoHS); Mounting Technology: Through Hole; Code_JEDEC: MS-001-AA; ComponentLink1Description: Manufacturer URL; ComponentLink1URL: http://www.ti.com/; ComponentLink2Description: Datasheet; ComponentLink2URL: http://www.ti.com/general/docs/lit/getliterature.tsp?genericPartNumber=DCP022415D&fileType=pdf; ComponentLink3Description: Package Specification; ComponentLink3URL: http://www.ti.com/lit/ml/mpdi058a/mpdi058a.pdf; ComponentLink4Description: URL Link1; ComponentLink4URL: Samples URL:http://www.ti.com/product/dcp022415d#samples
footprint TI-NVA7 (DIP, 7-Leads, Body 19.18x6.605mm, Pitch 2.54mm)
pins: 1 VS (power) "Voltage input", 2 0V (power) "Input side common", 5 0V (power) "Output side common", 6 +VOUT (power) "+Voltage out", 7 -VOUT (power) "-Voltage out", 8 NC "Not connected", 14 SYNC (in) "Synchronization pin"

## DCP022415DU
designator U?
Miniature, 2 W Isolated Unregulated DC-DC Converter, -40 to 85 degC, 12-pin SOP (DVB12), Pb-Free (RoHS); Manufacturer: Texas Instruments; PartNumber: DCP022415DU; Iout(Max)(A): 0.066; Regulated Outputs(#): 2; SubFamily: 1 W & 2 W Miniature; Vin(Max)(V): 26.4; Vin(Min)(V): 21.6; Vout(Max)(V): 15.75; Vout(Min)(V): 14.25; DatasheetVersion: SBVS011K; PackageVersion: 4202104/B; PackageReference: DVB12; PackageDescription: 12-Pin Plastic Small Outline, Body 17.9 x 7.5 mm; Supplier 1: Digi-Key; Supplier Part Number 1: 296-9449-5-ND; Supplier 2: Farnell; Supplier Part Number 2: 1212383; Supplier 3: Newark; Supplier Part Number 3: 01M7316; Supplier 4: Newark; Supplier Part Number 4: 74C9362; Supplier 5: Mouser; Supplier Part Number 5: 595-DCP022415DU; Eco-Plan: Pb-Free (RoHS); Mounting Technology: Surface Mount; Code_JEDEC: MS-013-AE; ComponentLink1Description: Manufacturer URL; ComponentLink1URL: http://www.ti.com/; ComponentLink2Description: Datasheet; ComponentLink2URL: http://www.ti.com/general/docs/lit/getliterature.tsp?genericPartNumber=DCP022415D&fileType=pdf; ComponentLink3Description: Package Specification; ComponentLink3URL: http://www.ti.com/lit/ml/mpds106a/mpds106a.pdf; ComponentLink4Description: URL Link1; ComponentLink4URL: Samples URL:http://www.ti.com/product/dcp022415d#samples
footprint TI-DVB12_N (SOP, 12-Leads, Body 17.9x7.5mm, Pitch 1.27mm, IPC Medium Density)
footprint TI-DVB12_L (SOP, 12-Leads, Body 17.9x7.5mm, Pitch 1.27mm, IPC High Density)
footprint TI-DVB12_M (SOP, 12-Leads, Body 17.9x7.5mm, Pitch 1.27mm, IPC Low Density)
part A pins: 1 VS (power) "Voltage input", 2 0V (power) "Input side common", 3 0V (power) "Input side common", 12 0V (power) "Output side common", 13 +VOUT (power) "+Voltage out", 14 -VOUT (power) "-Voltage out", 28 SYNC (in) "Synchronization pin"
part B pins: 15 NC "Not connected", 16 NC "Not connected", 17 NC "Not connected", 26 NC "Not connected", 27 NC "Not connected"

## DCP022415DU/1K
designator U?
Miniature, 2 W Isolated Unregulated DC-DC Converter, -40 to 85 degC, 12-pin SOP (DVB12), Pb-Free (RoHS); Manufacturer: Texas Instruments; PartNumber: DCP022415DU/1K; Iout(Max)(A): 0.066; Regulated Outputs(#): 2; SubFamily: 1 W & 2 W Miniature; Vin(Max)(V): 26.4; Vin(Min)(V): 21.6; Vout(Max)(V): 15.75; Vout(Min)(V): 14.25; DatasheetVersion: SBVS011K; PackageVersion: 4202104/B; PackageReference: DVB12; PackageDescription: 12-Pin Plastic Small Outline, Body 17.9 x 7.5 mm; Supplier 1: Digi-Key; Supplier Part Number 1: DCP022415DU/1K-ND; Supplier 2: Newark; Supplier Part Number 2: 74C9363; Supplier 3: Mouser; Supplier Part Number 3: 595-DCP022415DU/1K; Eco-Plan: Pb-Free (RoHS); Mounting Technology: Surface Mount; Code_JEDEC: MS-013-AE; ComponentLink1Description: Manufacturer URL; ComponentLink1URL: http://www.ti.com/; ComponentLink2Description: Datasheet; ComponentLink2URL: http://www.ti.com/general/docs/lit/getliterature.tsp?genericPartNumber=DCP022415D&fileType=pdf; ComponentLink3Description: Package Specification; ComponentLink3URL: http://www.ti.com/lit/ml/mpds106a/mpds106a.pdf; ComponentLink4Description: URL Link1; ComponentLink4URL: Samples URL:http://www.ti.com/product/tps55010#samples
footprint TI-DVB12_N (SOP, 12-Leads, Body 17.9x7.5mm, Pitch 1.27mm, IPC Medium Density)
footprint TI-DVB12_L (SOP, 12-Leads, Body 17.9x7.5mm, Pitch 1.27mm, IPC High Density)
footprint TI-DVB12_M (SOP, 12-Leads, Body 17.9x7.5mm, Pitch 1.27mm, IPC Low Density)
part A pins: 1 VS (power) "Voltage input", 2 0V (power) "Input side common", 3 0V (power) "Input side common", 12 0V (power) "Output side common", 13 +VOUT (power) "+Voltage out", 14 -VOUT (power) "-Voltage out", 28 SYNC (in) "Synchronization pin"
part B pins: 15 NC "Not connected", 16 NC "Not connected", 17 NC "Not connected", 26 NC "Not connected", 27 NC "Not connected"

## DCR010503P
designator U?
Miniature, 1 W Isolated Regulated DC-DC Converter, -40 to 85 degC, 10-pin DIP (NVE10), Pb-Free (RoHS); Manufacturer: Texas Instruments; PartNumber: DCR010503P; Iout(Max)(A): 0.3; Regulated Outputs(#): 1; SubFamily: 1 W & 2 W Miniature; Vin(Max)(V): 5.5; Vin(Min)(V): 4.5; Vout(Max)(V): 3.366; Vout(Min)(V): 3.234; DatasheetVersion: SBVS013C; PackageVersion: 4202497/A; PackageReference: NVE10; PackageDescription: 10-Pin Plastic In-Line, Body 6.61 x 22.86 mm; Supplier 1: Digi-Key; Supplier Part Number 1: DCR010503P-ND; Supplier 2: Farnell; Supplier Part Number 2: 1516845; Supplier 3: Newark; Supplier Part Number 3: 74C9364; Supplier 4: Mouser; Supplier Part Number 4: 595-DCR010503P; Eco-Plan: Pb-Free (RoHS); Mounting Technology: Through Hole; Code_JEDEC: MS-001-AC; ComponentLink1Description: Manufacturer URL; ComponentLink1URL: http://www.ti.com/; ComponentLink2Description: Datasheet; ComponentLink2URL: http://www.ti.com/general/docs/lit/getliterature.tsp?genericPartNumber=DCR010503&fileType=pdf; ComponentLink3Description: Package Specification; ComponentLink3URL: http://www.ti.com/litv/pdf/mpdi055; ComponentLink4Description: URL Link1; ComponentLink4URL: Samples URL:http://www.ti.com/product/dcr010503#samples
footprint TI-NVE10 (DIP, 10-Leads, Body 22.86x6.61mm, Pitch 2.54mm)
pins: 1 VS (power) "Voltage input", 2 NC "No connection", 7 VREC (out) "Rectified output", 8 0VOUT (power) "Output ground", 9 VO (power) "Voltage output", 10 DNC "Do not connect", 11 ENABLE (in) "Output voltage enable", 12 ~{ERROR} (oc) "Error flag active low", 17 0VIN (power) "Input ground", 18 SYNC (in) "Synchronization input"

## DCR010503U
designator U?
Miniature, 1 W Isolated Regulated DC-DC Converter, -40 to 85 degC, 12-pin SOP (DVB12), Pb-Free (RoHS); Manufacturer: Texas Instruments; PartNumber: DCR010503U; Iout(Max)(A): 0.3; Regulated Outputs(#): 1; SubFamily: 1 W & 2 W Miniature; Vin(Max)(V): 5.5; Vin(Min)(V): 4.5; Vout(Max)(V): 3.366; Vout(Min)(V): 3.234; DatasheetVersion: SBVS013C; PackageVersion: 4202104/B; PackageReference: DVB12; PackageDescription: 12-Pin Plastic Small Outline, Body 17.9 x 7.5 mm; Supplier 1: Digi-Key; Supplier Part Number 1: 296-9450-5-ND; Supplier 2: Newark; Supplier Part Number 2: 74C9365; Supplier 3: Mouser; Supplier Part Number 3: 595-DCR010503U; Eco-Plan: Pb-Free (RoHS); Mounting Technology: Surface Mount; Code_JEDEC: MS-013-AE; ComponentLink1Description: Manufacturer URL; ComponentLink1URL: http://www.ti.com/; ComponentLink2Description: Datasheet; ComponentLink2URL: http://www.ti.com/general/docs/lit/getliterature.tsp?genericPartNumber=DCR010503&fileType=pdf; ComponentLink3Description: Package Specification; ComponentLink3URL: http://www.ti.com/lit/ml/mpds106a/mpds106a.pdf; ComponentLink4Description: URL Link1; ComponentLink4URL: Samples URL:http://www.ti.com/product/dcr010503#samples
footprint TI-DVB12_N (SOP, 12-Leads, Body 17.9x7.5mm, Pitch 1.27mm, IPC Medium Density)
footprint TI-DVB12_L (SOP, 12-Leads, Body 17.9x7.5mm, Pitch 1.27mm, IPC High Density)
footprint TI-DVB12_M (SOP, 12-Leads, Body 17.9x7.5mm, Pitch 1.27mm, IPC Low Density)
pins: 1 VS (power) "Voltage Input", 2 VS (power) "Voltage Input", 3 NC "No Connection", 12 VREC (out) "Rectified Output", 13 0VOUT (power) "Output Ground", 14 VO (power) "Voltage Output", 15 DNC "Do Not Connect", 16 ENABLE (in) "Output Voltage Enable", 17 ~{ERROR} (oc) "Error Flag Active Low", 26 0VIN (power) "Input Ground", 27 0VIN (power) "Input Ground", 28 SYNC (in) "Synchronization Input"

## DCR010503U/1K
designator U?
Miniature, 1 W Isolated Regulated DC-DC Converter, -40 to 85 degC, 12-pin SOP (DVB12), Pb-Free (RoHS); Manufacturer: Texas Instruments; PartNumber: DCR010503U/1K; Iout(Max)(A): 0.3; Regulated Outputs(#): 1; SubFamily: 1 W & 2 W Miniature; Vin(Max)(V): 5.5; Vin(Min)(V): 4.5; Vout(Max)(V): 3.366; Vout(Min)(V): 3.234; DatasheetVersion: SBVS013C; PackageVersion: 4202104/B; PackageReference: DVB12; PackageDescription: 12-Pin Plastic Small Outline, Body 17.9 x 7.5 mm; Supplier 1: Digi-Key; Supplier Part Number 1: DCR010503U/1K-ND; Supplier 2: Mouser; Supplier Part Number 2: 595-DCR010503U/1K; Eco-Plan: Pb-Free (RoHS); Mounting Technology: Surface Mount; Code_JEDEC: MS-013-AE; ComponentLink1Description: Manufacturer URL; ComponentLink1URL: http://www.ti.com/; ComponentLink2Description: Datasheet; ComponentLink2URL: http://www.ti.com/general/docs/lit/getliterature.tsp?genericPartNumber=DCR010503&fileType=pdf; ComponentLink3Description: Package Specification; ComponentLink3URL: http://www.ti.com/lit/ml/mpds106a/mpds106a.pdf; ComponentLink4Description: URL Link1; ComponentLink4URL: Samples URL:http://www.ti.com/product/dcr010503#samples
footprint TI-DVB12_N (SOP, 12-Leads, Body 17.9x7.5mm, Pitch 1.27mm, IPC Medium Density)
footprint TI-DVB12_L (SOP, 12-Leads, Body 17.9x7.5mm, Pitch 1.27mm, IPC High Density)
footprint TI-DVB12_M (SOP, 12-Leads, Body 17.9x7.5mm, Pitch 1.27mm, IPC Low Density)
pins: 1 VS (power) "Voltage Input", 2 VS (power) "Voltage Input", 3 NC "No Connection", 12 VREC (out) "Rectified Output", 13 0VOUT (power) "Output Ground", 14 VO (power) "Voltage Output", 15 DNC "Do Not Connect", 16 ENABLE (in) "Output Voltage Enable", 17 ~{ERROR} (oc) "Error Flag Active Low", 26 0VIN (power) "Input Ground", 27 0VIN (power) "Input Ground", 28 SYNC (in) "Synchronization Input"

## DCR010503UE4
designator U?
Miniature, 1 W Isolated Regulated DC-DC Converter, -40 to 85 degC, 12-pin SOP (DVB12), Pb-Free (RoHS); Manufacturer: Texas Instruments; PartNumber: DCR010503UE4; Iout(Max)(A): 0.3; Regulated Outputs(#): 1; SubFamily: 1 W & 2 W Miniature; Vin(Max)(V): 5.5; Vin(Min)(V): 4.5; Vout(Max)(V): 3.366; Vout(Min)(V): 3.234; DatasheetVersion: SBVS013C; PackageVersion: 4202104/B; PackageReference: DVB12; PackageDescription: 12-Pin Plastic Small Outline, Body 17.9 x 7.5 mm; Supplier 1: Digi-Key; Supplier Part Number 1: DCR010503UE4-ND; Supplier 2: Farnell; Supplier Part Number 2: 1206891; Supplier 3: Newark; Supplier Part Number 3: 96K8469; Supplier 4: Newark; Supplier Part Number 4: 73K7733; Supplier 5: Mouser; Supplier Part Number 5: 595-DCR010503UE4; Eco-Plan: Pb-Free (RoHS); Mounting Technology: Surface Mount; Code_JEDEC: MS-013-AE; ComponentLink1Description: Manufacturer URL; ComponentLink1URL: http://www.ti.com/; ComponentLink2Description: Datasheet; ComponentLink2URL: http://www.ti.com/general/docs/lit/getliterature.tsp?genericPartNumber=DCR010503&fileType=pdf; ComponentLink3Description: Package Specification; ComponentLink3URL: http://www.ti.com/lit/ml/mpds106a/mpds106a.pdf; ComponentLink4Description: URL Link1; ComponentLink4URL: Samples URL:http://www.ti.com/product/tps55010#samples
footprint TI-DVB12_N (SOP, 12-Leads, Body 17.9x7.5mm, Pitch 1.27mm, IPC Medium Density)
footprint TI-DVB12_L (SOP, 12-Leads, Body 17.9x7.5mm, Pitch 1.27mm, IPC High Density)
footprint TI-DVB12_M (SOP, 12-Leads, Body 17.9x7.5mm, Pitch 1.27mm, IPC Low Density)
pins: 1 VS (power) "Voltage Input", 2 VS (power) "Voltage Input", 3 NC "No Connection", 12 VREC (out) "Rectified Output", 13 0VOUT (power) "Output Ground", 14 VO (power) "Voltage Output", 15 DNC "Do Not Connect", 16 ENABLE (in) "Output Voltage Enable", 17 ~{ERROR} (oc) "Error Flag Active Low", 26 0VIN (power) "Input Ground", 27 0VIN (power) "Input Ground", 28 SYNC (in) "Synchronization Input"

## DCR010505P
designator U?
Miniature, 1 W Isolated Regulated DC-DC Converter, -40 to 85 degC, 10-pin DIP (NVE10), Pb-Free (RoHS); Manufacturer: Texas Instruments; PartNumber: DCR010505P; Iout(Max)(A): 0.2; Regulated Outputs(#): 1; SubFamily: 1 W & 2 W Miniature; Vin(Max)(V): 5.5; Vin(Min)(V): 4.5; Vout(Max)(V): 5.1; Vout(Min)(V): 4.9; DatasheetVersion: SBVS013C; PackageVersion: 4202497/A; PackageReference: NVE10; PackageDescription: 10-Pin Plastic In-Line, Body 6.61 x 22.86 mm; Supplier 1: Digi-Key; Supplier Part Number 1: DCR010505P-ND; Supplier 2: Farnell; Supplier Part Number 2: 1214382; Supplier 3: Newark; Supplier Part Number 3: 74K3734; Supplier 4: Mouser; Supplier Part Number 4: 595-DCR010505P; Eco-Plan: Pb-Free (RoHS); Mounting Technology: Through Hole; Code_JEDEC: MS-001-AC; ComponentLink1Description: Manufacturer URL; ComponentLink1URL: http://www.ti.com/; ComponentLink2Description: Datasheet; ComponentLink2URL: http://www.ti.com/general/docs/lit/getliterature.tsp?genericPartNumber=DCR010505&fileType=pdf; ComponentLink3Description: Package Specification; ComponentLink3URL: http://www.ti.com/litv/pdf/mpdi055; ComponentLink4Description: URL Link1; ComponentLink4URL: Samples URL:http://www.ti.com/product/dcr010505#samples
footprint TI-NVE10 (DIP, 10-Leads, Body 22.86x6.61mm, Pitch 2.54mm)
pins: 1 VS (power) "Voltage input", 2 NC "No connection", 7 VREC (out) "Rectified output", 8 0VOUT (power) "Output ground", 9 VO (power) "Voltage output", 10 DNC "Do not connect", 11 ENABLE (in) "Output voltage enable", 12 ~{ERROR} (oc) "Error flag active low", 17 0VIN (power) "Input ground", 18 SYNC (in) "Synchronization input"

## DCR010505U
designator U?
Miniature, 1 W Isolated Regulated DC-DC Converter, -40 to 85 degC, 12-pin SOP (DVB12), Pb-Free (RoHS); Manufacturer: Texas Instruments; PartNumber: DCR010505U; Iout(Max)(A): 0.2; Regulated Outputs(#): 1; SubFamily: 1 W & 2 W Miniature; Vin(Max)(V): 5.5; Vin(Min)(V): 4.5; Vout(Max)(V): 5.1; Vout(Min)(V): 4.9; DatasheetVersion: SBVS013C; PackageVersion: 4202104/B; PackageReference: DVB12; PackageDescription: 12-Pin Plastic Small Outline, Body 17.9 x 7.5 mm; Supplier 1: Digi-Key; Supplier Part Number 1: 296-9451-5-ND; Supplier 2: Farnell; Supplier Part Number 2: 1212384; Supplier 3: Newark; Supplier Part Number 3: 84K1268; Supplier 4: Mouser; Supplier Part Number 4: 595-DCR010505U; Eco-Plan: Pb-Free (RoHS); Mounting Technology: Surface Mount; Code_JEDEC: MS-013-AE; ComponentLink1Description: Manufacturer URL; ComponentLink1URL: http://www.ti.com/; ComponentLink2Description: Datasheet; ComponentLink2URL: http://www.ti.com/general/docs/lit/getliterature.tsp?genericPartNumber=DCR010505&fileType=pdf; ComponentLink3Description: Package Specification; ComponentLink3URL: http://www.ti.com/lit/ml/mpds106a/mpds106a.pdf; ComponentLink4Description: URL Link1; ComponentLink4URL: Samples URL:http://www.ti.com/product/dcr010505#samples
footprint TI-DVB12_N (SOP, 12-Leads, Body 17.9x7.5mm, Pitch 1.27mm, IPC Medium Density)
footprint TI-DVB12_L (SOP, 12-Leads, Body 17.9x7.5mm, Pitch 1.27mm, IPC High Density)
footprint TI-DVB12_M (SOP, 12-Leads, Body 17.9x7.5mm, Pitch 1.27mm, IPC Low Density)
pins: 1 VS (power) "Voltage Input", 2 VS (power) "Voltage Input", 3 NC "No Connection", 12 VREC (out) "Rectified Output", 13 0VOUT (power) "Output Ground", 14 VO (power) "Voltage Output", 15 DNC "Do Not Connect", 16 ENABLE (in) "Output Voltage Enable", 17 ~{ERROR} (oc) "Error Flag Active Low", 26 0VIN (power) "Input Ground", 27 0VIN (power) "Input Ground", 28 SYNC (in) "Synchronization Input"

## DCR010505U/1K
designator U?
Miniature, 1 W Isolated Regulated DC-DC Converter, -40 to 85 degC, 12-pin SOP (DVB12), Pb-Free (RoHS); Manufacturer: Texas Instruments; PartNumber: DCR010505U/1K; Iout(Max)(A): 0.2; Regulated Outputs(#): 1; SubFamily: 1 W & 2 W Miniature; Vin(Max)(V): 5.5; Vin(Min)(V): 4.5; Vout(Max)(V): 5.1; Vout(Min)(V): 4.9; DatasheetVersion: SBVS013C; PackageVersion: 4202104/B; PackageReference: DVB12; PackageDescription: 12-Pin Plastic Small Outline, Body 17.9 x 7.5 mm; Supplier 1: Digi-Key; Supplier Part Number 1: 296-26052-2-ND; Supplier 2: Digi-Key; Supplier Part Number 2: 296-26052-1-ND; Supplier 3: Digi-Key; Supplier Part Number 3: 296-26052-6-ND; Supplier 4: Newark; Supplier Part Number 4: 74C9367; Supplier 5: Mouser; Supplier Part Number 5: 595-DCR010505U/1K; Eco-Plan: Pb-Free (RoHS); Mounting Technology: Surface Mount; Code_JEDEC: MS-013-AE; ComponentLink1Description: Manufacturer URL; ComponentLink1URL: http://www.ti.com/; ComponentLink2Description: Datasheet; ComponentLink2URL: http://www.ti.com/general/docs/lit/getliterature.tsp?genericPartNumber=DCR010505&fileType=pdf; ComponentLink3Description: Package Specification; ComponentLink3URL: http://www.ti.com/lit/ml/mpds106a/mpds106a.pdf; ComponentLink4Description: URL Link1; ComponentLink4URL: Samples URL:http://www.ti.com/product/dcr010505#samples
footprint TI-DVB12_N (SOP, 12-Leads, Body 17.9x7.5mm, Pitch 1.27mm, IPC Medium Density)
footprint TI-DVB12_L (SOP, 12-Leads, Body 17.9x7.5mm, Pitch 1.27mm, IPC High Density)
footprint TI-DVB12_M (SOP, 12-Leads, Body 17.9x7.5mm, Pitch 1.27mm, IPC Low Density)
pins: 1 VS (power) "Voltage Input", 2 VS (power) "Voltage Input", 3 NC "No Connection", 12 VREC (out) "Rectified Output", 13 0VOUT (power) "Output Ground", 14 VO (power) "Voltage Output", 15 DNC "Do Not Connect", 16 ENABLE (in) "Output Voltage Enable", 17 ~{ERROR} (oc) "Error Flag Active Low", 26 0VIN (power) "Input Ground", 27 0VIN (power) "Input Ground", 28 SYNC (in) "Synchronization Input"